# Altium schematic symbol library SCH - DRIVER - LED - TI TLC5930_PWP_24.SchLib: 1 symbol
Pins are listed as number, name and electrical type; pins without a type are passive.

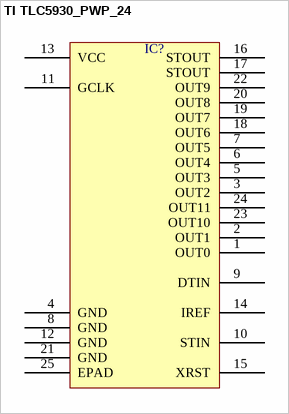
[diagram p0: symbol TI TLC5930_PWP_24]

## TI TLC5930_PWP_24
designator IC?  (value not drawn)
pins: 1 OUT0, 2 OUT1, 3 OUT2, 4 GND, 5 OUT3, 6 OUT4, 7 OUT5, 8 GND, 9 DTIN, 10 STIN, 11 GCLK, 12 GND, 13 VCC, 14 IREF, 15 XRST, 16 STOUT, 17 STOUT, 18 OUT6, 19 OUT7, 20 OUT8, 21 GND, 22 OUT9, 23 OUT10, 24 OUT11, 25 EPAD